# Altium schematic symbol library 691 311 500 1xx.SchLib: 23 symbols
Pins are listed as number, name and electrical type; pins without a type are passive.

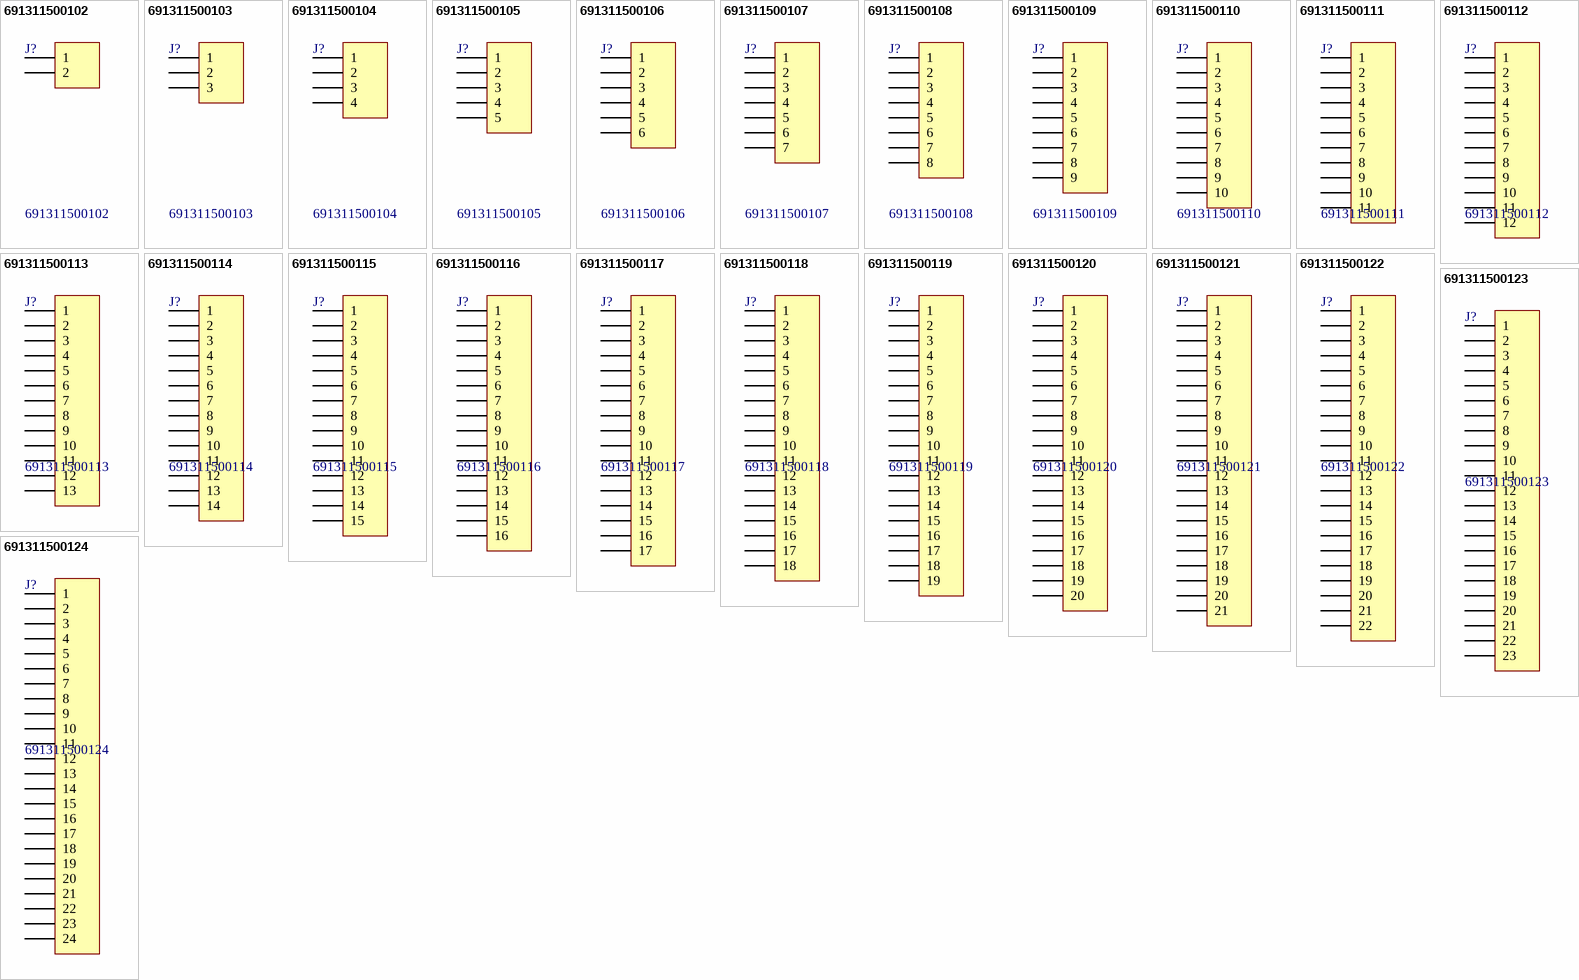
[diagram p0: symbols 691311500102 to 691311500124]

## 691311500102
designator J?
WR-TBL Terminal block - serie 311 Closed - 5.08mm; Manufacturer: Würth Elektronik eiSos GmbH; ComponentLink1 Description: Manufacturer; ComponentLink2 Description: Datasheet; NoPins: 02; Created Date: 8 January 2014; partNo: 691311500102; ComponentLink1URL: http://www.we-online.com; ComponentLink2URL: http://katalog.we-online.de/em/datasheet/6913115001xx.pdf; Created by: Karrer Zheng; Value: 691311500102
footprint 691311500102 (5,08mm - PCB Headers - Vertical - Closed ends -02p)
pins: 1, 2

## 691311500103
designator J?
WR-TBL Terminal block - serie 311 Closed - 5.08mm; Manufacturer: Würth Elektronik eiSos GmbH; ComponentLink1 Description: Manufacturer; ComponentLink2 Description: Datasheet; NoPins: 03; Created Date: 8 January 2014; partNo: 691311500103; ComponentLink1URL: http://www.we-online.com; ComponentLink2URL: http://katalog.we-online.de/em/datasheet/6913115001xx.pdf; Created by: Karrer Zheng; Value: 691311500103
footprint 691311500103 (5,08mm - PCB Headers - Vertical - Closed ends -03p)
pins: 1, 2, 3

## 691311500104
designator J?
WR-TBL Terminal block - serie 311 Closed - 5.08mm; Manufacturer: Würth Elektronik eiSos GmbH; ComponentLink1 Description: Manufacturer; ComponentLink2 Description: Datasheet; NoPins: 04; Created Date: 8 January 2014; partNo: 691311500104; ComponentLink1URL: http://www.we-online.com; ComponentLink2URL: http://katalog.we-online.de/em/datasheet/6913115001xx.pdf; Created by: Karrer Zheng; Value: 691311500104
footprint 691311500104 (5,08mm - PCB Headers - Vertical - Closed ends -04p)
pins: 1, 2, 3, 4

## 691311500105
designator J?
WR-TBL Terminal block - serie 311 Closed - 5.08mm; Manufacturer: Würth Elektronik eiSos GmbH; ComponentLink1 Description: Manufacturer; ComponentLink2 Description: Datasheet; NoPins: 05; Created Date: 8 January 2014; partNo: 691311500105; ComponentLink1URL: http://www.we-online.com; ComponentLink2URL: http://katalog.we-online.de/em/datasheet/6913115001xx.pdf; Created by: Karrer Zheng; Value: 691311500105
footprint 691311500105 (5,08mm - PCB Headers - Vertical - Closed ends -05p)
pins: 1, 2, 3, 4, 5

## 691311500106
designator J?
WR-TBL Terminal block - serie 311 Closed - 5.08mm; Manufacturer: Würth Elektronik eiSos GmbH; ComponentLink1 Description: Manufacturer; ComponentLink2 Description: Datasheet; NoPins: 06; Created Date: 8 January 2014; partNo: 691311500106; ComponentLink1URL: http://www.we-online.com; ComponentLink2URL: http://katalog.we-online.de/em/datasheet/6913115001xx.pdf; Created by: Karrer Zheng; Value: 691311500106
footprint 691311500106 (5,08mm - PCB Headers - Vertical - Closed ends -06p)
pins: 1, 2, 3, 4, 5, 6

## 691311500107
designator J?
WR-TBL Terminal block - serie 311 Closed - 5.08mm; Manufacturer: Würth Elektronik eiSos GmbH; ComponentLink1 Description: Manufacturer; ComponentLink2 Description: Datasheet; NoPins: 07; Created Date: 8 January 2014; partNo: 691311500107; ComponentLink1URL: http://www.we-online.com; ComponentLink2URL: http://katalog.we-online.de/em/datasheet/6913115001xx.pdf; Created by: Karrer Zheng; Value: 691311500107
footprint 691311500107 (5,08mm - PCB Headers - Vertical - Closed ends -07p)
pins: 1, 2, 3, 4, 5, 6, 7

## 691311500108
designator J?
WR-TBL Terminal block - serie 311 Closed - 5.08mm; Manufacturer: Würth Elektronik eiSos GmbH; ComponentLink1 Description: Manufacturer; ComponentLink2 Description: Datasheet; NoPins: 08; Created Date: 8 January 2014; partNo: 691311500108; ComponentLink1URL: http://www.we-online.com; ComponentLink2URL: http://katalog.we-online.de/em/datasheet/6913115001xx.pdf; Created by: Karrer Zheng; Value: 691311500108
footprint 691311500108 (5,08mm - PCB Headers - Vertical - Closed ends -08p)
pins: 1, 2, 3, 4, 5, 6, 7, 8

## 691311500109
designator J?
WR-TBL Terminal block - serie 311 Closed - 5.08mm; Manufacturer: Würth Elektronik eiSos GmbH; ComponentLink1 Description: Manufacturer; ComponentLink2 Description: Datasheet; NoPins: 09; Created Date: 8 January 2014; partNo: 691311500109; ComponentLink1URL: http://www.we-online.com; ComponentLink2URL: http://katalog.we-online.de/em/datasheet/6913115001xx.pdf; Created by: Karrer Zheng; Value: 691311500109
footprint 691311500109 (5,08mm - PCB Headers - Vertical - Closed ends -09p)
pins: 1, 2, 3, 4, 5, 6, 7, 8, 9

## 691311500110
designator J?
WR-TBL Terminal block - serie 311 Closed - 5.08mm; Manufacturer: Würth Elektronik eiSos GmbH; ComponentLink1 Description: Manufacturer; ComponentLink2 Description: Datasheet; NoPins: 10; Created Date: 8 January 2014; partNo: 691311500110; ComponentLink1URL: http://www.we-online.com; ComponentLink2URL: http://katalog.we-online.de/em/datasheet/6913115001xx.pdf; Created by: Karrer Zheng; Value: 691311500110
footprint 691311500110 (5,08mm - PCB Headers - Vertical - Closed ends -10p)
pins: 1, 2, 3, 4, 5, 6, 7, 8, 9, 10

## 691311500111
designator J?
WR-TBL Terminal block - serie 311 Closed - 5.08mm; Manufacturer: Würth Elektronik eiSos GmbH; ComponentLink1 Description: Manufacturer; ComponentLink2 Description: Datasheet; NoPins: 11; Created Date: 8 January 2014; partNo: 691311500111; ComponentLink1URL: http://www.we-online.com; ComponentLink2URL: http://katalog.we-online.de/em/datasheet/6913115001xx.pdf; Created by: Karrer Zheng; Value: 691311500111
footprint 691311500111 (5,08mm - PCB Headers - Vertical - Closed ends -11p)
pins: 1, 2, 3, 4, 5, 6, 7, 8, 9, 10, 11

## 691311500112
designator J?
WR-TBL Terminal block - serie 311 Closed - 5.08mm; Manufacturer: Würth Elektronik eiSos GmbH; ComponentLink1 Description: Manufacturer; ComponentLink2 Description: Datasheet; NoPins: 12; Created Date: 8 January 2014; partNo: 691311500112; ComponentLink1URL: http://www.we-online.com; ComponentLink2URL: http://katalog.we-online.de/em/datasheet/6913115001xx.pdf; Created by: Karrer Zheng; Value: 691311500112
footprint 691311500112 (5,08mm - PCB Headers - Vertical - Closed ends -12p)
pins: 1, 2, 3, 4, 5, 6, 7, 8, 9, 10, 11, 12

## 691311500113
designator J?
WR-TBL Terminal block - serie 311 Closed - 5.08mm; Manufacturer: Würth Elektronik eiSos GmbH; ComponentLink1 Description: Manufacturer; ComponentLink2 Description: Datasheet; NoPins: 13; Created Date: 8 January 2014; partNo: 691311500113; ComponentLink1URL: http://www.we-online.com; ComponentLink2URL: http://katalog.we-online.de/em/datasheet/6913115001xx.pdf; Created by: Karrer Zheng; Value: 691311500113
footprint 691311500113 (5,08mm - PCB Headers - Vertical - Closed ends -13p)
pins: 1, 2, 3, 4, 5, 6, 7, 8, 9, 10, 11, 12, 13

## 691311500114
designator J?
WR-TBL Terminal block - serie 311 Closed - 5.08mm; Manufacturer: Würth Elektronik eiSos GmbH; ComponentLink1 Description: Manufacturer; ComponentLink2 Description: Datasheet; NoPins: 14; Created Date: 8 January 2014; partNo: 691311500114; ComponentLink1URL: http://www.we-online.com; ComponentLink2URL: http://katalog.we-online.de/em/datasheet/6913115001xx.pdf; Created by: Karrer Zheng; Value: 691311500114
footprint 691311500114 (5,08mm - PCB Headers - Vertical - Closed ends -14p)
pins: 1, 2, 3, 4, 5, 6, 7, 8, 9, 10, 11, 12, 13, 14

## 691311500115
designator J?
WR-TBL Terminal block - serie 311 Closed - 5.08mm; Manufacturer: Würth Elektronik eiSos GmbH; ComponentLink1 Description: Manufacturer; ComponentLink2 Description: Datasheet; NoPins: 15; Created Date: 8 January 2014; partNo: 691311500115; ComponentLink1URL: http://www.we-online.com; ComponentLink2URL: http://katalog.we-online.de/em/datasheet/6913115001xx.pdf; Created by: Karrer Zheng; Value: 691311500115
footprint 691311500115 (5,08mm - PCB Headers - Vertical - Closed ends -15p)
pins: 1, 2, 3, 4, 5, 6, 7, 8, 9, 10, 11, 12, 13, 14, 15

## 691311500116
designator J?
WR-TBL Terminal block - serie 311 Closed - 5.08mm; Manufacturer: Würth Elektronik eiSos GmbH; ComponentLink1 Description: Manufacturer; ComponentLink2 Description: Datasheet; NoPins: 16; Created Date: 8 January 2014; partNo: 691311500116; ComponentLink1URL: http://www.we-online.com; ComponentLink2URL: http://katalog.we-online.de/em/datasheet/6913115001xx.pdf; Created by: Karrer Zheng; Value: 691311500116
footprint 691311500116 (5,08mm - PCB Headers - Vertical - Closed ends -16p)
pins: 1, 2, 3, 4, 5, 6, 7, 8, 9, 10, 11, 12, 13, 14, 15, 16

## 691311500117
designator J?
WR-TBL Terminal block - serie 311 Closed - 5.08mm; Manufacturer: Würth Elektronik eiSos GmbH; ComponentLink1 Description: Manufacturer; ComponentLink2 Description: Datasheet; NoPins: 17; Created Date: 8 January 2014; partNo: 691311500117; ComponentLink1URL: http://www.we-online.com; ComponentLink2URL: http://katalog.we-online.de/em/datasheet/6913115001xx.pdf; Created by: Karrer Zheng; Value: 691311500117
footprint 691311500117 (5,08mm - PCB Headers - Vertical - Closed ends -17p)
pins: 1, 2, 3, 4, 5, 6, 7, 8, 9, 10, 11, 12, 13, 14, 15, 16, 17

## 691311500118
designator J?
WR-TBL Terminal block - serie 311 Closed - 5.08mm; Manufacturer: Würth Elektronik eiSos GmbH; ComponentLink1 Description: Manufacturer; ComponentLink2 Description: Datasheet; NoPins: 18; Created Date: 8 January 2014; partNo: 691311500118; ComponentLink1URL: http://www.we-online.com; ComponentLink2URL: http://katalog.we-online.de/em/datasheet/6913115001xx.pdf; Created by: Karrer Zheng; Value: 691311500118
footprint 691311500118 (5,08mm - PCB Headers - Vertical - Closed ends -18p)
pins: 1, 2, 3, 4, 5, 6, 7, 8, 9, 10, 11, 12, 13, 14, 15, 16, 17, 18

## 691311500119
designator J?
WR-TBL Terminal block - serie 311 Closed - 5.08mm; Manufacturer: Würth Elektronik eiSos GmbH; ComponentLink1 Description: Manufacturer; ComponentLink2 Description: Datasheet; NoPins: 19; Created Date: 8 January 2014; partNo: 691311500119; ComponentLink1URL: http://www.we-online.com; ComponentLink2URL: http://katalog.we-online.de/em/datasheet/6913115001xx.pdf; Created by: Karrer Zheng; Value: 691311500119
footprint 691311500119 (5,08mm - PCB Headers - Vertical - Closed ends -19p)
pins: 1, 2, 3, 4, 5, 6, 7, 8, 9, 10, 11, 12, 13, 14, 15, 16, 17, 18, 19

## 691311500120
designator J?
WR-TBL Terminal block - serie 311 Closed - 5.08mm; Manufacturer: Würth Elektronik eiSos GmbH; ComponentLink1 Description: Manufacturer; ComponentLink2 Description: Datasheet; NoPins: 20; Created Date: 8 January 2014; partNo: 691311500120; ComponentLink1URL: http://www.we-online.com; ComponentLink2URL: http://katalog.we-online.de/em/datasheet/6913115001xx.pdf; Created by: Karrer Zheng; Value: 691311500120
footprint 691311500120 (5,08mm - PCB Headers - Vertical - Closed ends -20p)
pins: 1, 2, 3, 4, 5, 6, 7, 8, 9, 10, 11, 12, 13, 14, 15, 16, 17, 18, 19, 20

## 691311500121
designator J?
WR-TBL Terminal block - serie 311 Closed - 5.08mm; Manufacturer: Würth Elektronik eiSos GmbH; ComponentLink1 Description: Manufacturer; ComponentLink2 Description: Datasheet; NoPins: 21; Created Date: 8 January 2014; partNo: 691311500121; ComponentLink1URL: http://www.we-online.com; ComponentLink2URL: http://katalog.we-online.de/em/datasheet/6913115001xx.pdf; Created by: Karrer Zheng; Value: 691311500121
footprint 691311500121 (5,08mm - PCB Headers - Vertical - Closed ends -21p)
pins: 1, 2, 3, 4, 5, 6, 7, 8, 9, 10, 11, 12, 13, 14, 15, 16, 17, 18, 19, 20, 21

## 691311500122
designator J?
WR-TBL Terminal block - serie 311 Closed - 5.08mm; Manufacturer: Würth Elektronik eiSos GmbH; ComponentLink1 Description: Manufacturer; ComponentLink2 Description: Datasheet; NoPins: 22; Created Date: 8 January 2014; partNo: 691311500122; ComponentLink1URL: http://www.we-online.com; ComponentLink2URL: http://katalog.we-online.de/em/datasheet/6913115001xx.pdf; Created by: Karrer Zheng; Value: 691311500122
footprint 691311500122 (5,08mm - PCB Headers - Vertical - Closed ends -22p)
pins: 1, 2, 3, 4, 5, 6, 7, 8, 9, 10, 11, 12, 13, 14, 15, 16, 17, 18, 19, 20, 21, 22

## 691311500123
designator J?
WR-TBL Terminal block - serie 311 Closed - 5.08mm; Manufacturer: Würth Elektronik eiSos GmbH; ComponentLink1 Description: Manufacturer; ComponentLink2 Description: Datasheet; NoPins: 23; Created Date: 8 January 2014; partNo: 691311500123; ComponentLink1URL: http://www.we-online.com; ComponentLink2URL: http://katalog.we-online.de/em/datasheet/6913115001xx.pdf; Created by: Karrer Zheng; Value: 691311500123
footprint 691311500123 (5,08mm - PCB Headers - Vertical - Closed ends -23p)
pins: 1, 2, 3, 4, 5, 6, 7, 8, 9, 10, 11, 12, 13, 14, 15, 16, 17, 18, 19, 20, 21, 22, 23

## 691311500124
designator J?
WR-TBL Terminal block - serie 311 Closed - 5.08mm; Manufacturer: Würth Elektronik eiSos GmbH; ComponentLink1 Description: Manufacturer; ComponentLink2 Description: Datasheet; NoPins: 24; Created Date: 8 January 2014; partNo: 691311500124; ComponentLink1URL: http://www.we-online.com; ComponentLink2URL: http://katalog.we-online.de/em/datasheet/6913115001xx.pdf; Created by: Karrer Zheng; Value: 691311500124
footprint 691311500124 (5,08mm - PCB Headers - Vertical - Closed ends -24p)
pins: 1, 2, 3, 4, 5, 6, 7, 8, 9, 10, 11, 12, 13, 14, 15, 16, 17, 18, 19, 20, 21, 22, 23, 24